# Altium schematic symbol library PXHK.SCHLIB: 25 symbols
Pins are listed as number, name and electrical type; pins without a type are passive.

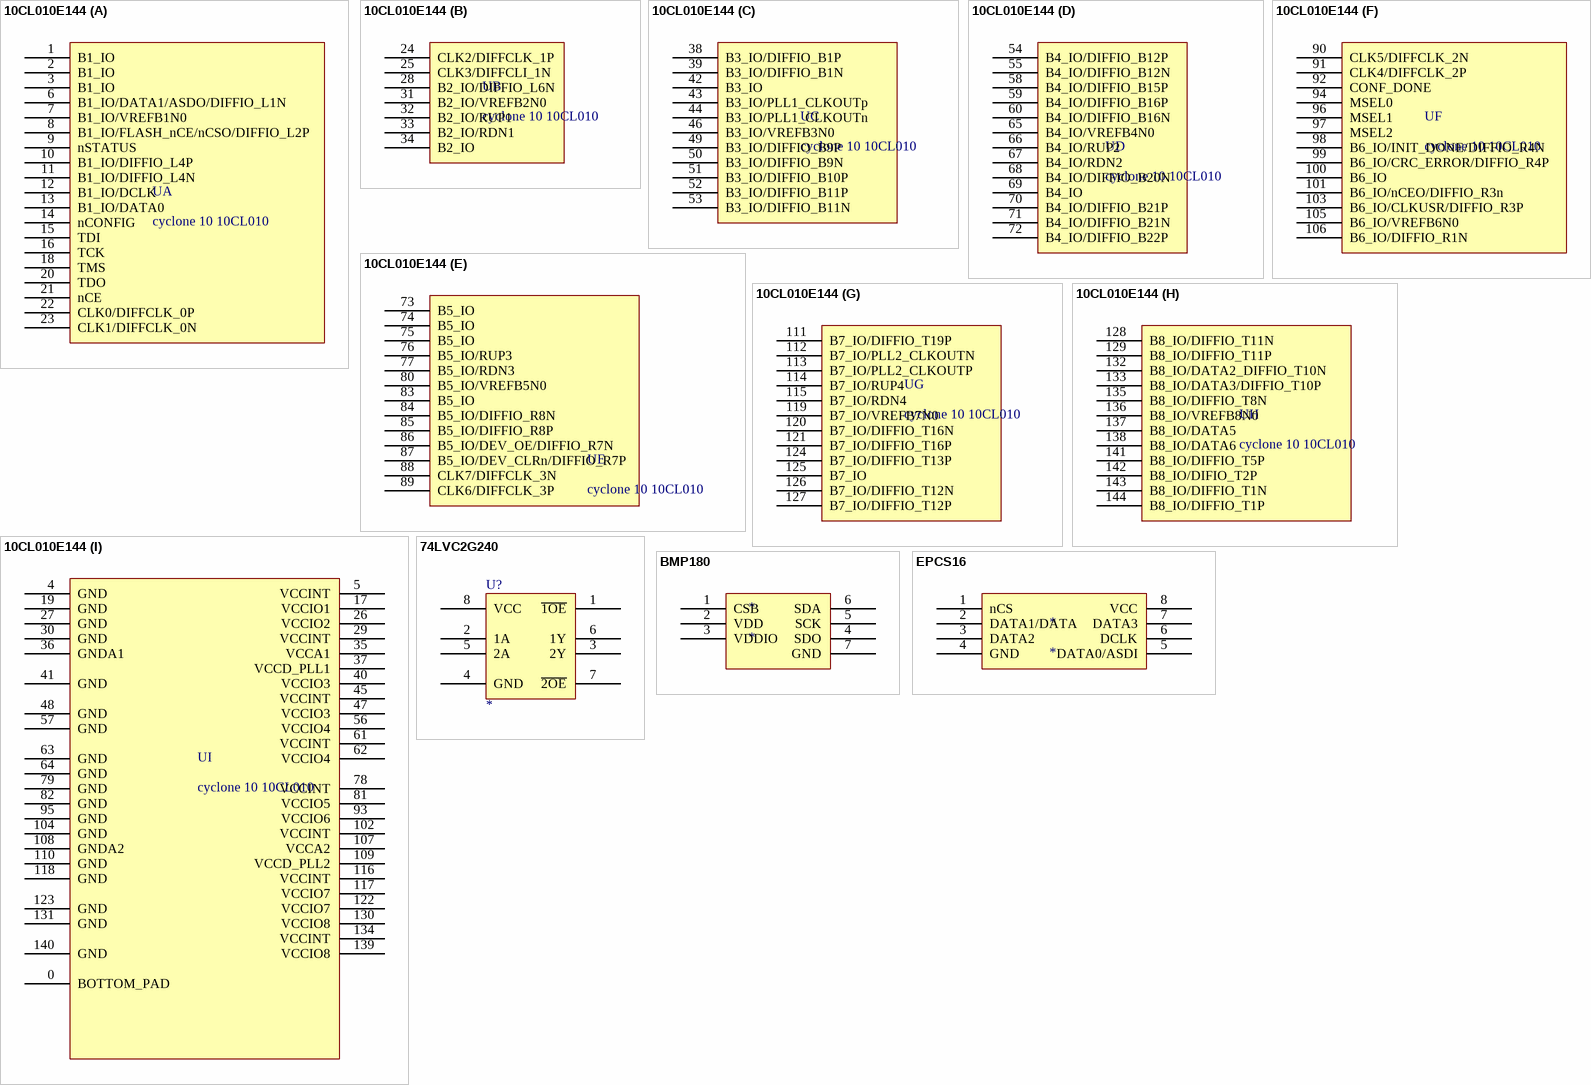
[diagram p0: symbols 10CL010E144 to EPCS16]

## 10CL010E144
designator U, comment cyclone 10 10CL010
part A pins: 1 B1_IO, 2 B1_IO, 3 B1_IO, 6 B1_IO/DATA1/ASDO/DIFFIO_L1N, 7 B1_IO/VREFB1N0, 8 B1_IO/FLASH_nCE/nCSO/DIFFIO_L2P, 9 nSTATUS, 10 B1_IO/DIFFIO_L4P, 11 B1_IO/DIFFIO_L4N, 12 B1_IO/DCLK, 13 B1_IO/DATA0, 14 nCONFIG, 15 TDI, 16 TCK, 18 TMS, 20 TDO, 21 nCE, 22 CLK0/DIFFCLK_0P, 23 CLK1/DIFFCLK_0N
part B pins: 24 CLK2/DIFFCLK_1P, 25 CLK3/DIFFCLI_1N, 28 B2_IO/DIFFIO_L6N, 31 B2_IO/VREFB2N0, 32 B2_IO/RUP1, 33 B2_IO/RDN1, 34 B2_IO
part C pins: 38 B3_IO/DIFFIO_B1P, 39 B3_IO/DIFFIO_B1N, 42 B3_IO, 43 B3_IO/PLL1_CLKOUTp, 44 B3_IO/PLL1_CLKOUTn, 46 B3_IO/VREFB3N0, 49 B3_IO/DIFFIO_B9P, 50 B3_IO/DIFFIO_B9N, 51 B3_IO/DIFFIO_B10P, 52 B3_IO/DIFFIO_B11P, 53 B3_IO/DIFFIO_B11N
part D pins: 54 B4_IO/DIFFIO_B12P, 55 B4_IO/DIFFIO_B12N, 58 B4_IO/DIFFIO_B15P, 59 B4_IO/DIFFIO_B16P, 60 B4_IO/DIFFIO_B16N, 65 B4_IO/VREFB4N0, 66 B4_IO/RUP2, 67 B4_IO/RDN2, 68 B4_IO/DIFFIO_B20N, 69 B4_IO, 70 B4_IO/DIFFIO_B21P, 71 B4_IO/DIFFIO_B21N, 72 B4_IO/DIFFIO_B22P
part E pins: 73 B5_IO, 74 B5_IO, 75 B5_IO, 76 B5_IO/RUP3, 77 B5_IO/RDN3, 80 B5_IO/VREFB5N0, 83 B5_IO, 84 B5_IO/DIFFIO_R8N, 85 B5_IO/DIFFIO_R8P, 86 B5_IO/DEV_OE/DIFFIO_R7N, 87 B5_IO/DEV_CLRn/DIFFIO_R7P, 88 CLK7/DIFFCLK_3N, 89 CLK6/DIFFCLK_3P
part F pins: 90 CLK5/DIFFCLK_2N, 91 CLK4/DIFFCLK_2P, 92 CONF_DONE, 94 MSEL0, 96 MSEL1, 97 MSEL2, 98 B6_IO/INIT_DONE/DIFFIO_R4N, 99 B6_IO/CRC_ERROR/DIFFIO_R4P, 100 B6_IO, 101 B6_IO/nCEO/DIFFIO_R3n, 103 B6_IO/CLKUSR/DIFFIO_R3P, 105 B6_IO/VREFB6N0, 106 B6_IO/DIFFIO_R1N
part G pins: 111 B7_IO/DIFFIO_T19P, 112 B7_IO/PLL2_CLKOUTN, 113 B7_IO/PLL2_CLKOUTP, 114 B7_IO/RUP4, 115 B7_IO/RDN4, 119 B7_IO/VREFB7N0, 120 B7_IO/DIFFIO_T16N, 121 B7_IO/DIFFIO_T16P, 124 B7_IO/DIFFIO_T13P, 125 B7_IO, 126 B7_IO/DIFFIO_T12N, 127 B7_IO/DIFFIO_T12P
part H pins: 128 B8_IO/DIFFIO_T11N, 129 B8_IO/DIFFIO_T11P, 132 B8_IO/DATA2_DIFFIO_T10N, 133 B8_IO/DATA3/DIFFIO_T10P, 135 B8_IO/DIFFIO_T8N, 136 B8_IO/VREFB8N0, 137 B8_IO/DATA5, 138 B8_IO/DATA6, 141 B8_IO/DIFFIO_T5P, 142 B8_IO/DIFIO_T2P, 143 B8_IO/DIFFIO_T1N, 144 B8_IO/DIFFIO_T1P
part I pins: 0 BOTTOM_PAD, 4 GND, 5 VCCINT, 17 VCCIO1, 19 GND, 26 VCCIO2, 27 GND, 29 VCCINT, 30 GND, 35 VCCA1, 36 GNDA1, 37 VCCD_PLL1, 40 VCCIO3, 41 GND, 45 VCCINT, 47 VCCIO3, 48 GND, 56 VCCIO4, 57 GND, 61 VCCINT, 62 VCCIO4, 63 GND, 64 GND, 78 VCCINT, 79 GND, 81 VCCIO5, 82 GND, 93 VCCIO6, 95 GND, 102 VCCINT, 104 GND, 107 VCCA2, 108 GNDA2, 109 VCCD_PLL2, 110 GND, 116 VCCINT, 117 VCCIO7, 118 GND, 122 VCCIO7, 123 GND, 130 VCCIO8, 131 GND, 134 VCCINT, 139 VCCIO8, 140 GND

## 74LVC2G240
designator U?
pins: 1 ~{1OE}, 2 1A, 3 2Y, 4 GND, 5 2A, 6 1Y, 7 ~{2OE}, 8 VCC

## BMP180
designator *
pins: 1 CSB, 2 VDD, 3 VDDIO, 4 SDO, 5 SCK, 6 SDA, 7 GND

## EPCS16
designator *
pins: 1 nCS, 2 DATA1/DATA, 3 DATA2, 4 GND, 5 DATA0/ASDI, 6 DCLK, 7 DATA3, 8 VCC

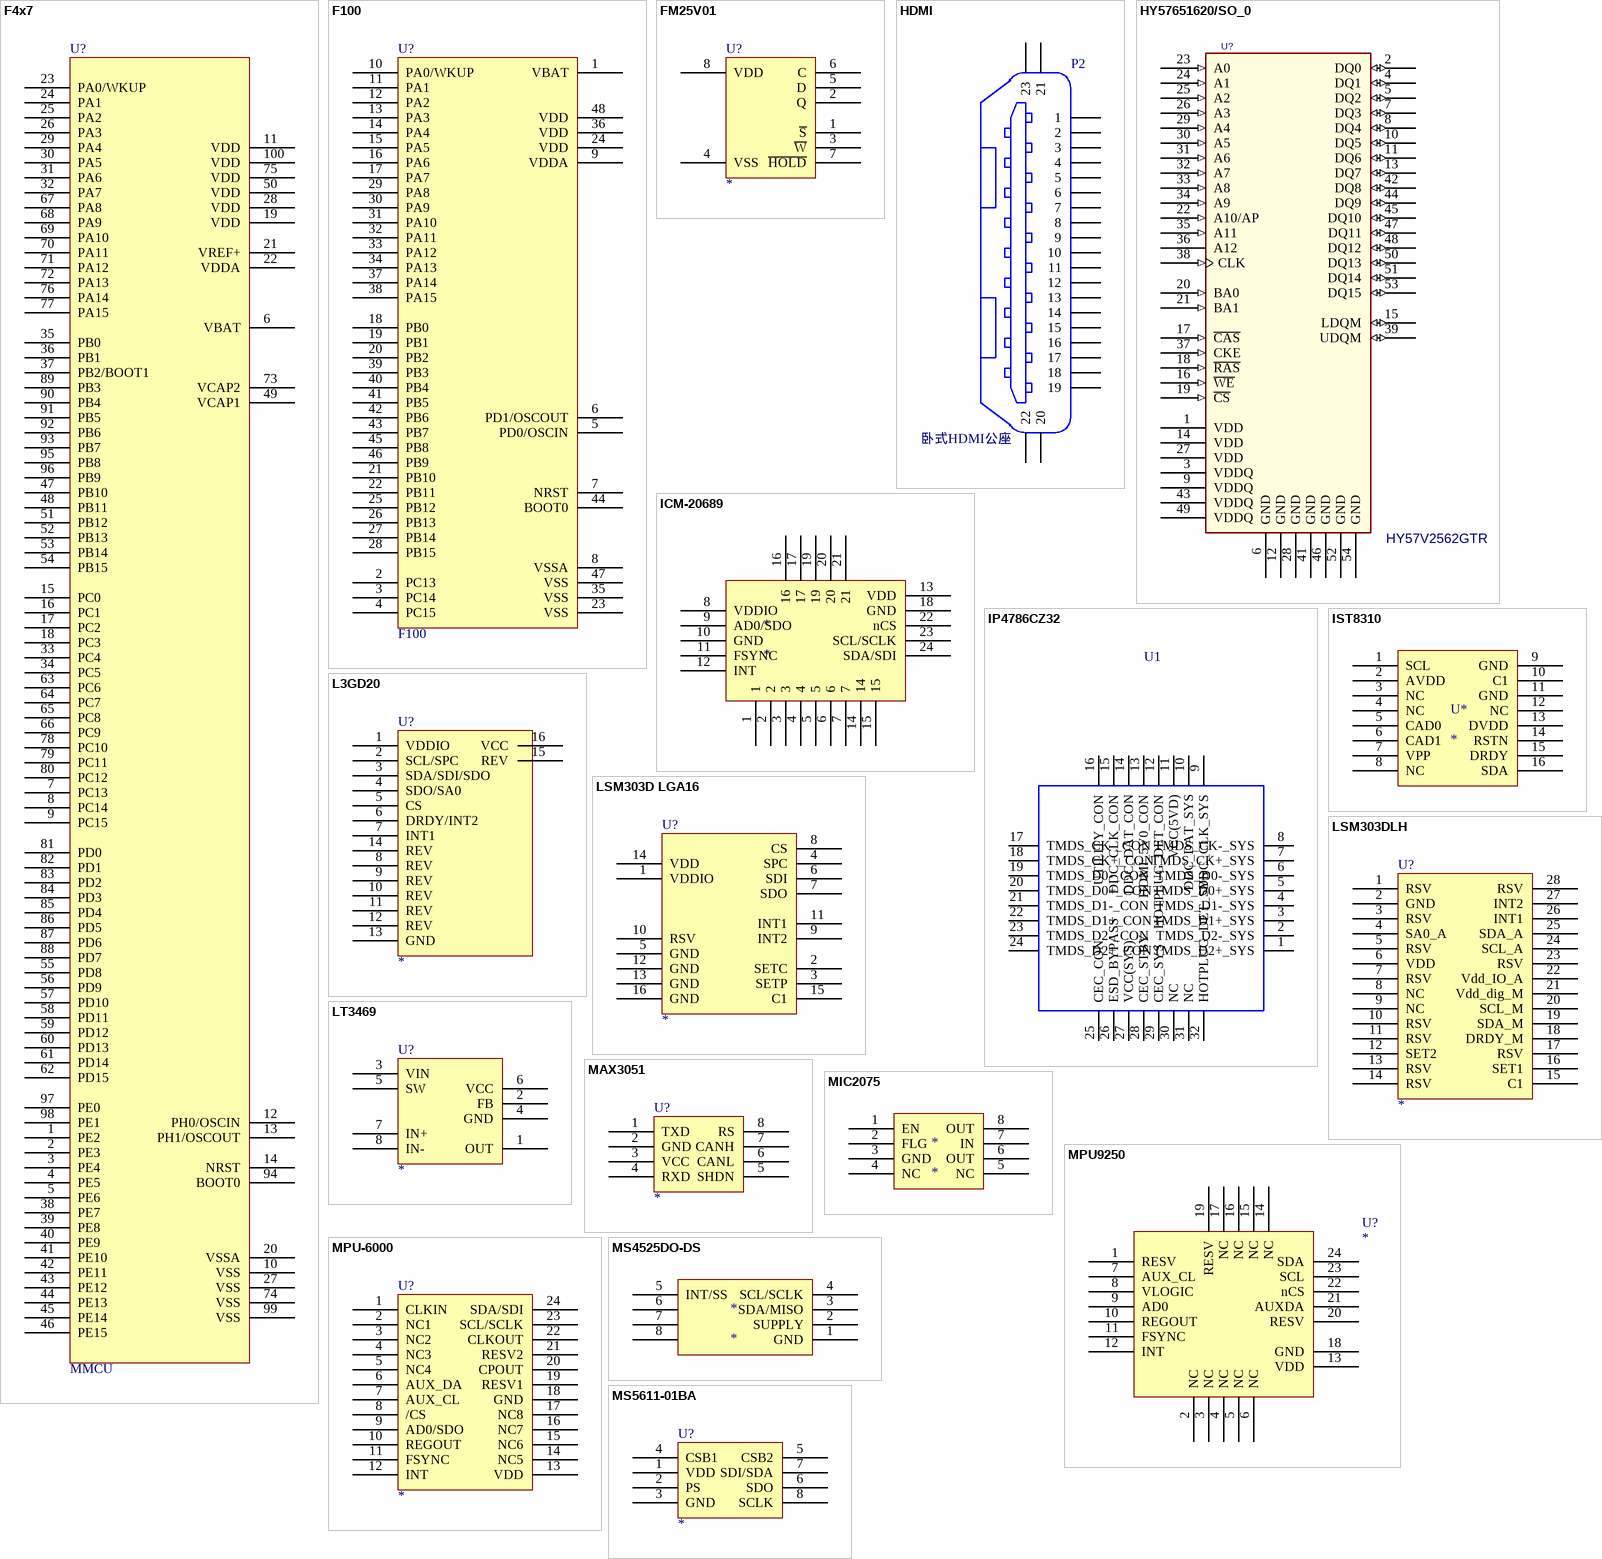
[diagram p1: symbols F4x7 to MS5611-01BA]

## F4x7
designator U?, comment MMCU
pins: 1 PE2, 2 PE3, 3 PE4, 4 PE5, 5 PE6, 6 VBAT, 7 PC13, 8 PC14, 9 PC15, 10 VSS, 11 VDD, 12 PH0/OSCIN, 13 PH1/OSCOUT, 14 NRST, 15 PC0, 16 PC1, 17 PC2, 18 PC3, 19 VDD, 20 VSSA, 21 VREF+, 22 VDDA, 23 PA0/WKUP, 24 PA1, 25 PA2, 26 PA3, 27 VSS, 28 VDD, 29 PA4, 30 PA5, 31 PA6, 32 PA7, 33 PC4, 34 PC5, 35 PB0, 36 PB1, 37 PB2/BOOT1, 38 PE7, 39 PE8, 40 PE9, 41 PE10, 42 PE11, 43 PE12, 44 PE13, 45 PE14, 46 PE15, 47 PB10, 48 PB11, 49 VCAP1, 50 VDD, 51 PB12, 52 PB13, 53 PB14, 54 PB15, 55 PD8, 56 PD9, 57 PD10, 58 PD11, 59 PD12, 60 PD13, 61 PD14, 62 PD15, 63 PC6, 64 PC7, 65 PC8, 66 PC9, 67 PA8, 68 PA9, 69 PA10, 70 PA11, 71 PA12, 72 PA13, 73 VCAP2, 74 VSS, 75 VDD, 76 PA14, 77 PA15, 78 PC10, 79 PC11, 80 PC12, 81 PD0, 82 PD1, 83 PD2, 84 PD3, 85 PD4, 86 PD5, 87 PD6, 88 PD7, 89 PB3, 90 PB4, 91 PB5, 92 PB6, 93 PB7, 94 BOOT0, 95 PB8, 96 PB9, 97 PE0, 98 PE1, 99 VSS, 100 VDD

## F100
designator U?
pins: 1 VBAT, 2 PC13, 3 PC14, 4 PC15, 5 PD0/OSCIN, 6 PD1/OSCOUT, 7 NRST, 8 VSSA, 9 VDDA, 10 PA0/WKUP, 11 PA1, 12 PA2, 13 PA3, 14 PA4, 15 PA5, 16 PA6, 17 PA7, 18 PB0, 19 PB1, 20 PB2, 21 PB10, 22 PB11, 23 VSS, 24 VDD, 25 PB12, 26 PB13, 27 PB14, 28 PB15, 29 PA8, 30 PA9, 31 PA10, 32 PA11, 33 PA12, 34 PA13, 35 VSS, 36 VDD, 37 PA14, 38 PA15, 39 PB3, 40 PB4, 41 PB5, 42 PB6, 43 PB7, 44 BOOT0, 45 PB8, 46 PB9, 47 VSS, 48 VDD

## FM25V01
designator U?
pins: 1 ~{S}, 2 Q, 3 ~{W}, 4 VSS, 5 D, 6 C, 7 ~{HOLD}, 8 VDD

## HDMI
designator P2
卧式HDMI公座; NAME: 卧式HDMI公座
footprint SMD19
pins: 1, 2, 3, 4, 5, 6, 7, 8, 9, 10, 11, 12, 13, 14, 15, 16, 17, 18, 19, 20, 21, 22, 23

## HY57651620/SO_0
designator U?, comment HY57V2562GTR
footprint TSOP-54
pins: 1 VDD (power), 2 DQ0 (io), 3 VDDQ (power), 4 DQ1 (io), 5 DQ2 (io), 6 GND (power), 7 DQ3 (io), 8 DQ4 (io), 9 VDDQ (power), 10 DQ5 (io), 11 DQ6 (io), 12 GND (power), 13 DQ7 (io), 14 VDD (power), 15 LDQM (io), 16 ~{WE} (in), 17 ~{CAS} (in), 18 ~{RAS} (in), 19 ~{CS} (in), 20 BA0 (in), 21 BA1 (in), 22 A10/AP (in), 23 A0 (in), 24 A1 (in), 25 A2 (in), 26 A3 (in), 27 VDD (power), 28 GND (power), 29 A4 (in), 30 A5 (in), 31 A6 (in), 32 A7 (in), 33 A8 (in), 34 A9 (in), 35 A11 (in), 36 A12, 37 CKE (in), 38 CLK (in), 39 UDQM (io), 41 GND (power), 42 DQ8 (io), 43 VDDQ (power), 44 DQ9 (io), 45 DQ10 (io), 46 GND (power), 47 DQ11 (io), 48 DQ12 (io), 49 VDDQ (power), 50 DQ13 (io), 51 DQ14 (io), 52 GND (power), 53 DQ15 (io), 54 GND (power)

## ICM-20689
designator *
pins: 1, 2, 3, 4, 5, 6, 7, 8 VDDIO, 9 AD0/SDO, 10 GND, 11 FSYNC, 12 INT, 13 VDD, 14, 15, 16, 17, 18 GND, 19, 20, 21, 22 nCS, 23 SCL/SCLK, 24 SDA/SDI

## IP4786CZ32
designator U1, comment 4786  (value not drawn)
footprint QFN32
pins: 1 TMDS_D2+_SYS, 2 TMDS_D2-_SYS, 3 TMDS_D1+_SYS, 4 TMDS_D1-_SYS, 5 TMDS_D0+_SYS, 6 TMDS_D0-_SYS, 7 TMDS_CK+_SYS, 8 TMDS_CK-_SYS, 9 DDC_CLK_SYS, 10 DDC_DAT_SYS, 11 VCC(5VD), 12 HOTPLUG_DET_CON, 13 HDMI_5V0_CON, 14 DDC_DAT_CON, 15 DDC_CLK_CON, 16 UTILITY_CON, 17 TMDS_CK-_CON, 18 TMDS_CK+_CON, 19 TMDS_D0-_CON, 20 TMDS_D0+_CON, 21 TMDS_D1-_CON, 22 TMDS_D1+_CON, 23 TMDS_D2-_CON, 24 TMDS_D2+_CON, 25 CEC_CON, 26 ESD_BYPASS, 27 VCC(SYS), 28 CEC_STBY, 29 CEC_SYS, 30 NC, 31 NC, 32 HOTPLUG_DET_SYS

## IST8310
designator U*
pins: 1 SCL, 2 AVDD, 3 NC, 4 NC, 5 CAD0, 6 CAD1, 7 VPP, 8 NC, 9 GND, 10 C1, 11 GND, 12 NC, 13 DVDD, 14 RSTN, 15 DRDY, 16 SDA

## L3GD20
designator U?
pins: 1 VDDIO, 2 SCL/SPC, 3 SDA/SDI/SDO, 4 SDO/SA0, 5 CS, 6 DRDY/INT2, 7 INT1, 8 REV, 9 REV, 10 REV, 11 REV, 12 REV, 13 GND, 14 REV, 15 REV, 16 VCC

## LSM303D LGA16
designator U?
pins: 1 VDDIO, 2 SETC, 3 SETP, 4 SPC, 5 GND, 6 SDI, 7 SDO, 8 CS, 9 INT2, 10 RSV, 11 INT1, 12 GND, 13 GND, 14 VDD, 15 C1, 16 GND

## LSM303DLH
designator U?
pins: 1 RSV, 2 GND, 3 RSV, 4 SA0_A, 5 RSV, 6 VDD, 7 RSV, 8 NC, 9 NC, 10 RSV, 11 RSV, 12 SET2, 13 RSV, 14 RSV, 15 C1, 16 SET1, 17 RSV, 18 DRDY_M, 19 SDA_M, 20 SCL_M, 21 Vdd_dig_M, 22 Vdd_IO_A, 23 RSV, 24 SCL_A, 25 SDA_A, 26 INT1, 27 INT2, 28 RSV

## LT3469
designator U?
pins: 1 OUT, 2 FB, 3 VIN, 4 GND, 5 SW, 6 VCC, 7 IN+, 8 IN-

## MAX3051
designator U?
pins: 1 TXD, 2 GND, 3 VCC, 4 RXD, 5 SHDN, 6 CANL, 7 CANH, 8 RS

## MIC2075
designator *
pins: 1 EN, 2 FLG, 3 GND, 4 NC, 5 NC, 6 OUT, 7 IN, 8 OUT

## MPU9250
designator U?
footprint QFN24
pins: 1 RESV, 2 NC, 3 NC, 4 NC, 5 NC, 6 NC, 7 AUX_CL, 8 VLOGIC, 9 AD0, 10 REGOUT, 11 FSYNC, 12 INT, 13 VDD, 14 NC, 15 NC, 16 NC, 17 NC, 18 GND, 19 RESV, 20 RESV, 21 AUXDA, 22 nCS, 23 SCL, 24 SDA

## MPU-6000
designator U?
pins: 1 CLKIN, 2 NC1, 3 NC2, 4 NC3, 5 NC4, 6 AUX_DA, 7 AUX_CL, 8 /CS, 9 AD0/SDO, 10 REGOUT, 11 FSYNC, 12 INT, 13 VDD, 14 NC5, 15 NC6, 16 NC7, 17 NC8, 18 GND, 19 RESV1, 20 CPOUT, 21 RESV2, 22 CLKOUT, 23 SCL/SCLK, 24 SDA/SDI

## MS4525DO-DS
designator *
pins: 1 GND, 2 SUPPLY, 3 SDA/MISO, 4 SCL/SCLK, 5 INT/SS, 6, 7, 8

## MS5611-01BA
designator U?
pins: 1 VDD, 2 PS, 3 GND, 4 CSB1, 5 CSB2, 6 SDO, 7 SDI/SDA, 8 SCLK

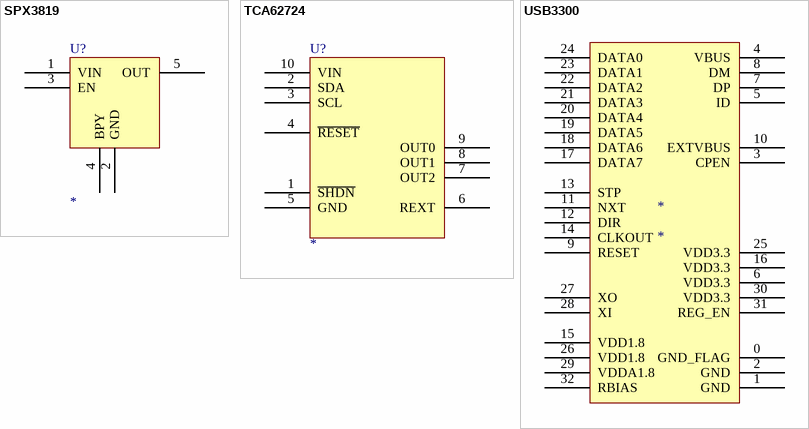
[diagram p2: symbols SPX3819 to USB3300]

## SPX3819
designator U?
pins: 1 VIN, 2 GND, 3 EN, 4 BPY, 5 OUT

## TCA62724
designator U?
pins: 1 ~{SHDN}, 2 SDA, 3 SCL, 4 ~{RESET}, 5 GND, 6 REXT, 7 OUT2, 8 OUT1, 9 OUT0, 10 VIN

## USB3300
designator *
pins: 0 GND_FLAG, 1 GND, 2 GND, 3 CPEN, 4 VBUS, 5 ID, 6 VDD3.3, 7 DP, 8 DM, 9 RESET, 10 EXTVBUS, 11 NXT, 12 DIR, 13 STP, 14 CLKOUT, 15 VDD1.8, 16 VDD3.3, 17 DATA7, 18 DATA6, 19 DATA5, 20 DATA4, 21 DATA3, 22 DATA2, 23 DATA1, 24 DATA0, 25 VDD3.3, 26 VDD1.8, 27 XO, 28 XI, 29 VDDA1.8, 30 VDD3.3, 31 REG_EN, 32 RBIAS